# Altium footprint library ICs.PcbLib: 132 footprints (part 8 of 9)
Each footprint in its own frame and in the unit in brackets; x right, y up, seen from the top. Pads: shape width x height; smd on the part's side, far side on the other; paste and mask are expansions set on the pad; w line width, h text height; cw(c..) or ccw(c..) is an arc to the next point about the centre after c.
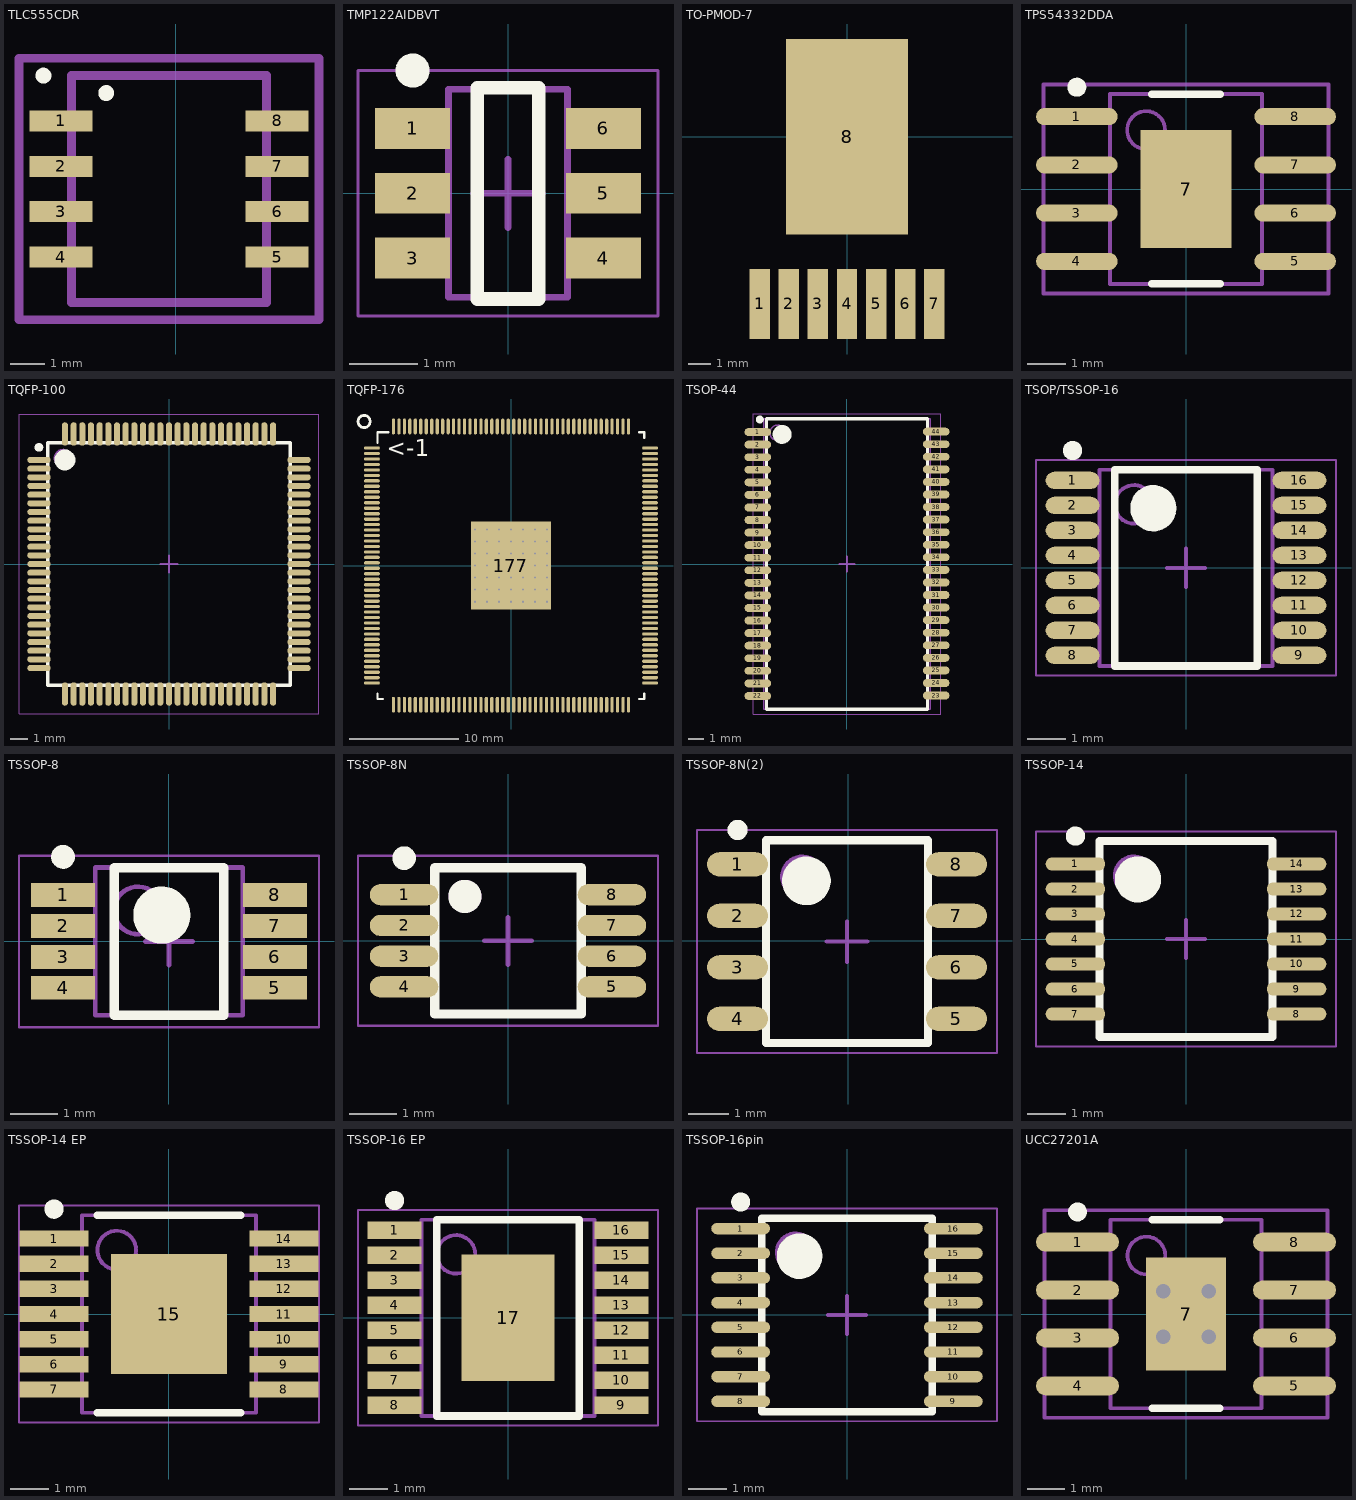
[diagram p7: the footprints below, top view; thin cyan lines are the x and y axes]

## TLC555CDR [mm]
height 2
pads (8):
  rect 1.8x0.6 smd: 1(-3.3,-3.8) 2(-3.3,-5.1) 3(-3.3,-6.4) 4(-3.3,-7.7) 5(2.9,-7.7) 6(2.9,-6.4) 7(2.9,-5.1) 8(2.9,-3.8)
Top Overlay:
  circle w0.254: c-2,-3 r0.1
  circle w0.254: c-3.8,-2.5 r0.1
Mechanical 13:
  lines w0.254: -3,-9 2.6,-9 2.6,-2.5 -3,-2.5 -3,-9
Mechanical 15:
  lines w0.254: -4.5,-9.5 4.1,-9.5 4.1,-2 -4.5,-2 -4.5,-9.5
3D body: height 2, standoff 0, extent -3.1,-9.1 2.7,-2.4

## TMP122AIDBVT [mm] "SOT23"
height 1.45
pads (6):
  rect 1.1x0.6 smd: 1(-1.4,0.95) 2(-1.4,0) 3(-1.4,-0.95) 4(1.4,-0.95) 5(1.4,0) 6(1.4,0.95)
Top Overlay:
  circle w0.25: c-1.4,1.8 r0.125
  lines w0.2: -0.45,-1.55 -0.45,1.55 0.45,1.55 0.45,-1.55 -0.45,-1.55
Mechanical 13:
  lines w0.1: -0.875,-1.525 0.875,-1.525 0.875,1.525 -0.875,1.525 -0.875,-1.525
Mechanical 15:
  lines w0.05: -2.2,-1.8 2.2,-1.8 2.2,1.8 -2.2,1.8 -2.2,-1.8
  lines w0.1: -0.5,0 0.5,0 ; 0,-0.5 0,0.5
3D body: height 1.45, standoff 0.15, extent -0.875,-1.525 0.875,1.525

## TO-PMOD-7 [mm] "For LMZ14201h"
height 4.57
pads (8):
  rect 0.89x3.06 smd: 1(-3.81,-7.305) 2(-2.54,-7.305) 3(-1.27,-7.305) 4(0,-7.305) 5(1.27,-7.305) 6(2.54,-7.305) 7(3.81,-7.305)
  rect 5.35x8.54 smd: 8(0,0)
3D body: height 5, standoff 0.6, extent -4.826,-5.74 4.902,4.407

## TPS54332DDA [mm] "IC REG BUCK ADJ 3.5A 8SOPWRPAD"
height 1.7
pads (9):
  oval 2.15x0.45 smd: 1(-2.875,1.905) 2(-2.875,0.635) 3(-2.875,-0.635) 4(-2.875,-1.905) 5(2.875,-1.905) 6(2.875,-0.635) 7(2.875,0.635) 8(2.875,1.905)
  rect 2.4x3.1 smd: 7(0,0)
Top Overlay:
  circle w0.25: c-2.875,2.68 r0.125
  lines w0.2: -0.9,-2.5 0.9,-2.5 ; -0.9,2.5 0.9,2.5
Mechanical 13:
  circle w0.1: c-1.05,1.55 r0.5
  lines w0.1: -2,-2.5 2,-2.5 2,2.5 -2,2.5 -2,-2.5
Mechanical 15:
  lines w0.1: -0.5,0 0.5,0 ; 0,-0.5 0,0.5 ; -3.75,-2.75 3.75,-2.75 3.75,2.75 -3.75,2.75 -3.75,-2.75
3D body: height 1.7, standoff 0.1, extent -2,-2.5 2,2.5

## TQFP-100 [mm] "Used For Altera Max II CPLD"
height 1.2
pads (100):
  oval 1.35x0.35 smd: 1(-7.5,6) 2(-7.5,5.5) 3(-7.5,5) 4(-7.5,4.5) 5(-7.5,4) 6(-7.5,3.5) 7(-7.5,3) 8(-7.5,2.5) 9(-7.5,2) 10(-7.5,1.5) 11(-7.5,1) 12(-7.5,0.5) 13(-7.5,0) 14(-7.5,-0.5) 15(-7.5,-1) 16(-7.5,-1.5) 17(-7.5,-2) 18(-7.5,-2.5) 19(-7.5,-3) 20(-7.5,-3.5) 21(-7.5,-4) 22(-7.5,-4.5) 23(-7.5,-5) 24(-7.5,-5.5) 25(-7.5,-6) 51(7.5,-6) 52(7.5,-5.5) 53(7.5,-5) 54(7.5,-4.5) 55(7.5,-4) 56(7.5,-3.5) 57(7.5,-3) 58(7.5,-2.5) 59(7.5,-2) 60(7.5,-1.5) 61(7.5,-1) 62(7.5,-0.5) 63(7.5,0) 64(7.5,0.5) 65(7.5,1) 66(7.5,1.5) 67(7.5,2) 68(7.5,2.5) 69(7.5,3) 70(7.5,3.5) 71(7.5,4) 72(7.5,4.5) 73(7.5,5) 74(7.5,5.5) 75(7.5,6)
  oval 0.35x1.35 smd: 26(-6,-7.5) 27(-5.5,-7.5) 28(-5,-7.5) 29(-4.5,-7.5) 30(-4,-7.5) 31(-3.5,-7.5) 32(-3,-7.5) 33(-2.5,-7.5) 34(-2,-7.5) 35(-1.5,-7.5) 36(-1,-7.5) 37(-0.5,-7.5) 38(0,-7.5) 39(0.5,-7.5) 40(1,-7.5) 41(1.5,-7.5) 42(2,-7.5) 43(2.5,-7.5) 44(3,-7.5) 45(3.5,-7.5) 46(4,-7.5) 47(4.5,-7.5) 48(5,-7.5) 49(5.5,-7.5) 50(6,-7.5) 76(6,7.5) 77(5.5,7.5) 78(5,7.5) 79(4.5,7.5) 80(4,7.5) 81(3.5,7.5) 82(3,7.5) 83(2.5,7.5) 84(2,7.5) 85(1.5,7.5) 86(1,7.5) 87(0.5,7.5) 88(0,7.5) 89(-0.5,7.5) 90(-1,7.5) 91(-1.5,7.5) 92(-2,7.5) 93(-2.5,7.5) 94(-3,7.5) 95(-3.5,7.5) 96(-4,7.5) 97(-4.5,7.5) 98(-5,7.5) 99(-5.5,7.5) 100(-6,7.5)
Top Overlay:
  circle w0.6: c-6,6 r0.3
  circle w0.25: c-7.5,6.725 r0.125
  lines w0.2: -7,-7 7,-7 7,7 -7,7 -7,-7
Mechanical 13:
  circle w0.1: c-6.1,6.1 r0.5
  lines w0.1: -7,-7 7,-7 7,7 -7,7 -7,-7
Mechanical 15:
  lines w0.05: -8.65,-8.65 8.65,-8.65 8.65,8.65 -8.65,8.65 -8.65,-8.65
  lines w0.1: -0.5,0 0.5,0 ; 0,-0.5 0,0.5
3D body: height 1.2, standoff 0.15, extent -7,-7 7,7

## TQFP-176 [mm] "For TMS320F28377sPTP"
height 0.127
pads (226):
  oval 1.45x0.3 smd paste+0 mask+0.051: 1(-12.75,10.775) 2(-12.75,10.275) 3(-12.75,9.775) 4(-12.75,9.275) 5(-12.75,8.775) 6(-12.75,8.275) 7(-12.75,7.775) 8(-12.75,7.275) 9(-12.75,6.775) 10(-12.75,6.275) 11(-12.75,5.775) 12(-12.75,5.275) 13(-12.75,4.775) 14(-12.75,4.275) 15(-12.75,3.775) 16(-12.75,3.275) 17(-12.75,2.775) 18(-12.75,2.275) 19(-12.75,1.775) 20(-12.75,1.275) 21(-12.75,0.775) 22(-12.75,0.275) 23(-12.75,-0.225) 24(-12.75,-0.725) 25(-12.75,-1.225) 26(-12.75,-1.725) 27(-12.75,-2.225) 28(-12.75,-2.725) 29(-12.75,-3.225) 30(-12.75,-3.725) 31(-12.75,-4.225) 32(-12.75,-4.725) 33(-12.75,-5.225) 34(-12.75,-5.725) 35(-12.75,-6.225) 36(-12.75,-6.725) 37(-12.75,-7.225) 38(-12.75,-7.725) 39(-12.75,-8.225) 40(-12.75,-8.725) 41(-12.75,-9.225) 42(-12.75,-9.725) 43(-12.75,-10.225) 44(-12.75,-10.725) 89(12.7,-10.725) 90(12.7,-10.225) 91(12.7,-9.725) 92(12.7,-9.225) 93(12.7,-8.725) 94(12.7,-8.225) 95(12.7,-7.725) 96(12.7,-7.225) 97(12.7,-6.725) 98(12.7,-6.225) 99(12.7,-5.725) 100(12.7,-5.225) 101(12.7,-4.725) 102(12.7,-4.225) 103(12.7,-3.725) 104(12.7,-3.225) 105(12.7,-2.725) 106(12.7,-2.225) 107(12.7,-1.725) 108(12.7,-1.225) 109(12.7,-0.725) 110(12.7,-0.225) 111(12.7,0.275) 112(12.7,0.775) 113(12.7,1.275) 114(12.7,1.775) 115(12.7,2.275) 116(12.7,2.775) 117(12.7,3.275) 118(12.7,3.775) 119(12.7,4.275) 120(12.7,4.775) 121(12.7,5.275) 122(12.7,5.775) 123(12.7,6.275) 124(12.7,6.775) 125(12.7,7.275) 126(12.7,7.775) 127(12.7,8.275) 128(12.7,8.775) 129(12.7,9.275) 130(12.7,9.775) 131(12.7,10.275) 132(12.7,10.775)
  oval 0.3x1.45 smd paste+0 mask+0.051: 45(-10.775,-12.7) 46(-10.275,-12.7) 47(-9.775,-12.7) 48(-9.275,-12.7) 49(-8.775,-12.7) 50(-8.275,-12.7) 51(-7.775,-12.7) 52(-7.275,-12.7) 53(-6.775,-12.7) 54(-6.275,-12.7) 55(-5.775,-12.7) 56(-5.275,-12.7) 57(-4.775,-12.7) 58(-4.275,-12.7) 59(-3.775,-12.7) 60(-3.275,-12.7) 61(-2.775,-12.7) 62(-2.275,-12.7) 63(-1.775,-12.7) 64(-1.275,-12.7) 65(-0.775,-12.7) 66(-0.275,-12.7) 67(0.225,-12.7) 68(0.725,-12.7) 69(1.225,-12.7) 70(1.725,-12.7) 71(2.225,-12.7) 72(2.725,-12.7) 73(3.225,-12.7) 74(3.725,-12.7) 75(4.225,-12.7) 76(4.725,-12.7) 77(5.225,-12.7) 78(5.725,-12.7) 79(6.225,-12.7) 80(6.725,-12.7) 81(7.225,-12.7) 82(7.725,-12.7) 83(8.225,-12.7) 84(8.725,-12.7) 85(9.225,-12.7) 86(9.725,-12.7) 87(10.225,-12.7) 88(10.725,-12.7) 133(10.725,12.75) 134(10.225,12.75) 135(9.725,12.75) 136(9.225,12.75) 137(8.725,12.75) 138(8.225,12.75) 139(7.725,12.75) 140(7.225,12.75) 141(6.725,12.75) 142(6.225,12.75) 143(5.725,12.75) 144(5.225,12.75) 145(4.725,12.75) 146(4.225,12.75) 147(3.725,12.75) 148(3.225,12.75) 149(2.725,12.75) 150(2.225,12.75) 151(1.725,12.75) 152(1.225,12.75) 153(0.725,12.75) 154(0.225,12.75) 155(-0.275,12.75) 156(-0.775,12.75) 157(-1.275,12.75) 158(-1.775,12.75) 159(-2.275,12.75) 160(-2.775,12.75) 161(-3.275,12.75) 162(-3.775,12.75) 163(-4.275,12.75) 164(-4.775,12.75) 165(-5.275,12.75) 166(-5.775,12.75) 167(-6.275,12.75) 168(-6.775,12.75) 169(-7.275,12.75) 170(-7.775,12.75) 171(-8.275,12.75) 172(-8.775,12.75) 173(-9.275,12.75) 174(-9.775,12.75) 175(-10.275,12.75) 176(-10.775,12.75)
  rect 7.33x8.07 smd paste+0 mask+0.051: 177(-0.025,0.025)
  round 0.5 / inner round 1.524 / far side round 0.5 hole 0.203 mask+0.051: V(-3.325,-3.275) V(-3.325,-2.175) V(-3.325,-1.075) V(-3.325,0.025) V(-3.325,1.125) V(-3.325,2.225) V(-3.325,3.325) V(-2.225,-3.275) V(-2.225,-2.175) V(-2.225,-1.075) V(-2.225,0.025) V(-2.225,1.125) V(-2.225,2.225) V(-2.225,3.325) V(-1.125,-3.275) V(-1.125,-2.175) V(-1.125,-1.075) V(-1.125,0.025) V(-1.125,1.125) V(-1.125,2.225) V(-1.125,3.325) V(-0.025,-3.275) V(-0.025,-2.175) V(-0.025,-1.075) V(-0.025,0.025) V(-0.025,1.125) V(-0.025,2.225) V(-0.025,3.325) V(1.075,-3.275) V(1.075,-2.175) V(1.075,-1.075) V(1.075,0.025) V(1.075,1.125) V(1.075,2.225) V(1.075,3.325) V(2.175,-3.275) V(2.175,-2.175) V(2.175,-1.075) V(2.175,0.025) V(2.175,1.125) V(2.175,2.225) V(2.175,3.325) V(3.275,-3.275) V(3.275,-2.175) V(3.275,-1.075) V(3.275,0.025) V(3.275,1.125) V(3.275,2.225) V(3.275,3.325)
Top Overlay:
  circle w0.254: c-13.462,13.208 r0.558
  lines w0.2: -12.225,-11.675 -12.225,-12.175 -11.725,-12.175 ; -12.225,11.225 -12.225,12.225 -11.225,12.225 ; 11.675,-12.175 12.175,-12.175 12.175,-11.675 ; 11.675,12.225 12.175,12.225 12.175,11.725
  text "<-1" at -11.405,10.008 h1.52
3D body: height 1.5, standoff 0, extent -12.37,-12.268 12.192,12.344

## TSOP-44 [mm] "For Cypress 4MB SRAM"
height 1.2
pads (44):
  oval 1.7x0.5 smd: 1(-5.677,8.4) 2(-5.677,7.6) 3(-5.677,6.8) 4(-5.677,6) 5(-5.677,5.2) 6(-5.677,4.4) 7(-5.677,3.6) 8(-5.677,2.8) 9(-5.677,2) 10(-5.677,1.2) 11(-5.677,0.4) 12(-5.677,-0.4) 13(-5.677,-1.2) 14(-5.677,-2) 15(-5.677,-2.8) 16(-5.677,-3.6) 17(-5.677,-4.4) 18(-5.677,-5.2) 19(-5.677,-6) 20(-5.677,-6.8) 21(-5.677,-7.6) 22(-5.677,-8.4) 23(5.677,-8.375) 24(5.677,-7.575) 25(5.677,-6.775) 26(5.677,-5.975) 27(5.677,-5.175) 28(5.677,-4.375) 29(5.677,-3.575) 30(5.677,-2.775) 31(5.677,-1.975) 32(5.677,-1.175) 33(5.677,-0.375) 34(5.677,0.425) 35(5.677,1.225) 36(5.677,2.025) 37(5.677,2.825) 38(5.677,3.625) 39(5.677,4.425) 40(5.677,5.225) 41(5.677,6.025) 42(5.677,6.825) 43(5.677,7.625) 44(5.677,8.425)
Top Overlay:
  circle w0.25: c-5.55,9.2 r0.125
  circle w0.6: c-4.131,8.25 r0.3
  lines w0.2: -5.131,-9.254 -5.131,9.246 ; -5.131,-9.25 5.131,-9.25 ; -5.131,9.25 5.131,9.25 ; 5.131,-9.254 5.131,9.246
Mechanical 13:
  circle w0.1: c-4.4,8.35 r0.5
  lines w0.1: -5.309,-9.254 -5.309,9.246 ; -5.3,-9.25 5.3,-9.25 ; -5.3,9.25 5.3,9.25 ; 5.309,-9.254 5.309,9.246
Mechanical 15:
  lines w0.05: -5.975,-9.55 -5.975,9.55 5.975,9.55 5.975,-9.55 -5.975,-9.55
  lines w0.1: -0.5,0 0.5,0 ; 0,-0.5 0,0.5
3D body: height 1.2, standoff 0.06, extent -5.3,-9.25 5.3,9.25

## TSOP/TSSOP-16 [mm] "TSOP/TSSOP, 16-Leads, Body 5.00x4.40mm, Pitch 0.65mm, IPC Medium Density"
height 1.1
pads (16):
  oval 1.4x0.45 smd: 1(-2.95,2.275) 2(-2.95,1.625) 3(-2.95,0.975) 4(-2.95,0.325) 5(-2.95,-0.325) 6(-2.95,-0.975) 7(-2.95,-1.625) 8(-2.95,-2.275) 9(2.95,-2.275) 10(2.95,-1.625) 11(2.95,-0.975) 12(2.95,-0.325) 13(2.95,0.325) 14(2.95,0.975) 15(2.95,1.625) 16(2.95,2.275)
Top Overlay:
  circle w0.6: c-0.85,1.55 r0.3
  circle w0.25: c-2.95,3.05 r0.125
  lines w0.2: -1.85,-2.55 1.85,-2.55 1.85,2.55 -1.85,2.55 -1.85,-2.55
Mechanical 13:
  circle w0.1: c-1.35,1.65 r0.5
  lines w0.1: -2.25,-2.55 2.25,-2.55 2.25,2.55 -2.25,2.55 -2.25,-2.55
Mechanical 15:
  lines w0.05: -3.9,-2.8 3.9,-2.8 3.9,2.8 -3.9,2.8 -3.9,-2.8
  lines w0.1: -0.5,0 0.5,0 ; 0,-0.5 0,0.5
3D body: height 1.1, standoff 0.15, extent -2.25,-2.55 2.25,2.55

## TSSOP-8 [mm] "TSOP, 8-Leads, Body 3.00x3.00mm, Pitch 0.65mm, IPC Medium Density"
height 1
pads (8):
  rect 1.35x0.5 smd: 1(-2.225,0.975) 2(-2.225,0.325) 3(-2.225,-0.325) 4(-2.225,-0.975) 5(2.225,-0.975) 6(2.225,-0.325) 7(2.225,0.325) 8(2.225,0.975)
Top Overlay:
  circle w0.6: c-0.15,0.55 r0.3
  circle w0.25: c-2.225,1.775 r0.125
  lines w0.2: -1.15,-1.55 1.15,-1.55 1.15,1.55 -1.15,1.55 -1.15,-1.55
Mechanical 13:
  circle w0.1: c-0.65,0.65 r0.5
  lines w0.1: -1.55,-1.55 1.55,-1.55 1.55,1.55 -1.55,1.55 -1.55,-1.55
Mechanical 15:
  lines w0.05: -3.15,-1.8 3.15,-1.8 3.15,1.8 -3.15,1.8 -3.15,-1.8
  lines w0.1: -0.5,0 0.5,0 ; 0,-0.5 0,0.5
3D body: height 1, standoff 0.05, extent -1.55,-1.55 1.55,1.55

## TSSOP-8N [mm]
height 1.1
pads (8):
  oval 1.45x0.45 smd: 1(-2.2,0.975) 2(-2.2,0.325) 3(-2.2,-0.325) 4(-2.2,-0.975) 5(2.2,-0.975) 6(2.2,-0.325) 7(2.2,0.325) 8(2.2,0.975)
Top Overlay:
  circle w0.6: c-0.914,0.94 r0.05
  circle w0.25: c-2.2,1.75 r0.125
  lines w0.2: -1.55,-1.55 1.55,-1.55 1.55,1.55 -1.55,1.55 -1.55,-1.55
Mechanical 13:
  circle w0.1: c-0.91,0.94 r0.3
  lines w0.1: -1.55,-1.55 1.55,-1.55 1.55,1.55 -1.55,1.55 -1.55,-1.55
Mechanical 15:
  lines w0.05: -3.175,-1.8 3.175,-1.8 3.175,1.8 -3.175,1.8 -3.175,-1.8
  lines w0.1: -0.5,0 0.5,0 ; 0,-0.5 0,0.5
3D body: height 1.1, standoff 0.1, extent -1.55,-1.55 1.55,1.55

## TSSOP-8N(2) [mm] "For LMV722"
height 1.1
pads (8):
  oval 1.5x0.6 smd: 1(-2.725,1.88) 2(-2.725,0.61) 3(-2.725,-0.66) 4(-2.725,-1.93) 5(2.675,-1.93) 6(2.675,-0.66) 7(2.675,0.61) 8(2.675,1.88)
Top Overlay:
  circle w0.6: c-1.025,1.475 r0.3
  circle w0.25: c-2.725,2.73 r0.125
  lines w0.2: -2.025,-2.525 1.975,-2.525 1.975,2.475 -2.025,2.475 -2.025,-2.525
Mechanical 13:
  circle w0.1: c-1.125,1.575 r0.5
  lines w0.1: -2.025,-2.525 1.975,-2.525 1.975,2.475 -2.025,2.475 -2.025,-2.525
Mechanical 15:
  lines w0.05: -3.725,-2.775 3.675,-2.775 3.675,2.725 -3.725,2.725 -3.725,-2.775
  lines w0.1: -0.525,-0.025 0.475,-0.025 ; -0.025,-0.525 -0.025,0.475
3D body: height 1.75, standoff 0.1, extent -2.025,-2.525 1.975,2.475

## TSSOP-14 [mm] "For AD8402ARUZ50-ND (Digital Pot)"
height 1.05
pads (14):
  oval 1.55x0.35 smd: 1(-2.875,1.95) 2(-2.875,1.3) 3(-2.875,0.65) 4(-2.875,0) 5(-2.875,-0.65) 6(-2.875,-1.3) 7(-2.875,-1.95) 8(2.875,-1.95) 9(2.875,-1.3) 10(2.875,-0.65) 11(2.875,0) 12(2.875,0.65) 13(2.875,1.3) 14(2.875,1.95)
Top Overlay:
  circle w0.25: c-2.875,2.675 r0.125
  circle w0.6: c-1.25,1.55 r0.3
  lines w0.2: -2.25,-2.55 -2.25,2.55 2.25,2.55 2.25,-2.55 -2.25,-2.55
Mechanical 13:
  circle w0.1: c-1.35,1.65 r0.5
  lines w0.1: -2.25,-2.55 -2.25,2.55 2.25,2.55 2.25,-2.55 -2.25,-2.55
Mechanical 15:
  lines w0.05: -3.9,-2.8 -3.9,2.8 3.9,2.8 3.9,-2.8 -3.9,-2.8
  lines w0.1: -0.5,0 0.5,0 ; 0,-0.5 0,0.5
3D body: height 1.05, standoff 0.05, extent -2.25,-2.55 2.25,2.55

## TSSOP-14 EP [mm] "TSOP, 14-Leads, Body 5.00x4.40mm, Pitch 0.65mm, Thermal Pad 3.10x3.00mm, IPC Medium Density"
height 1.1
pads (15):
  rect 1.78x0.42 smd: 1(-2.97,1.95) 2(-2.97,1.3) 3(-2.97,0.65) 4(-2.97,0) 5(-2.97,-0.65) 6(-2.97,-1.3) 7(-2.97,-1.95) 8(2.97,-1.95) 9(2.97,-1.3) 10(2.97,-0.65) 11(2.97,0) 12(2.97,0.65) 13(2.97,1.3) 14(2.97,1.95)
  rect 3x3.1 smd: 15(0,0)
Top Overlay:
  circle w0.25: c-2.97,2.71 r0.125
  lines w0.2: -1.85,-2.55 1.85,-2.55 ; -1.85,2.55 1.85,2.55
Mechanical 13:
  circle w0.1: c-1.35,1.65 r0.5
  lines w0.1: -2.25,-2.55 2.25,-2.55 2.25,2.55 -2.25,2.55 -2.25,-2.55
Mechanical 15:
  lines w0.05: -3.875,-2.8 3.875,-2.8 3.875,2.8 -3.875,2.8 -3.875,-2.8
  lines w0.1: -0.5,0 0.5,0 ; 0,-0.5 0,0.5
3D body: height 1.1, standoff 0.08, extent -2.25,-2.55 2.25,2.55

## TSSOP-16 EP [mm] "TSOP, 16-Leads, Body 5.00x4.40mm, Pitch 0.65mm, Thermal Pad 3.29x2.41mm, IPC Medium Density"
height 1.2
pads (17):
  rect 1.4x0.45 smd: 1(-2.95,2.275) 2(-2.95,1.625) 3(-2.95,0.975) 4(-2.95,0.325) 5(-2.95,-0.325) 6(-2.95,-0.975) 7(-2.95,-1.625) 8(-2.95,-2.275) 9(2.95,-2.275) 10(2.95,-1.625) 11(2.95,-0.975) 12(2.95,-0.325) 13(2.95,0.325) 14(2.95,0.975) 15(2.95,1.625) 16(2.95,2.275)
  rect 2.41x3.29 smd: 17(0,0)
Top Overlay:
  circle w0.25: c-2.95,3.05 r0.125
  lines w0.2: -1.85,-2.55 -1.85,2.55 1.85,2.55 1.85,-2.55 -1.85,-2.55
Mechanical 13:
  circle w0.1: c-1.35,1.65 r0.5
  lines w0.1: -2.25,-2.55 -2.25,2.55 2.25,2.55 2.25,-2.55 -2.25,-2.55
Mechanical 15:
  lines w0.05: -3.9,-2.8 -3.9,2.8 3.9,2.8 3.9,-2.8 -3.9,-2.8
  lines w0.1: -0.5,0 0.5,0 ; 0,-0.5 0,0.5
3D body: height 1.2, standoff 0.05, extent -2.25,-2.55 2.25,2.55

## TSSOP-16pin [mm] "For 296-19764-ND"
height 1.2
pads (16):
  oval 1.55x0.3 smd: 1(-2.8,2.275) 2(-2.8,1.625) 3(-2.8,0.975) 4(-2.8,0.325) 5(-2.8,-0.325) 6(-2.8,-0.975) 7(-2.8,-1.625) 8(-2.8,-2.275) 9(2.8,-2.275) 10(2.8,-1.625) 11(2.8,-0.975) 12(2.8,-0.325) 13(2.8,0.325) 14(2.8,0.975) 15(2.8,1.625) 16(2.8,2.275)
Top Overlay:
  circle w0.6: c-1.25,1.55 r0.3
  circle w0.25: c-2.8,2.975 r0.125
  lines w0.2: -2.25,-2.55 2.25,-2.55 2.25,2.55 -2.25,2.55 -2.25,-2.55
Mechanical 13:
  circle w0.1: c-1.35,1.65 r0.5
  lines w0.1: -2.25,-2.55 2.25,-2.55 2.25,2.55 -2.25,2.55 -2.25,-2.55
Mechanical 15:
  lines w0.05: -3.95,-2.8 3.95,-2.8 3.95,2.8 -3.95,2.8 -3.95,-2.8
  lines w0.1: -0.5,0 0.5,0 ; 0,-0.5 0,0.5
3D body: height 1.2, standoff 0.1, extent -2.25,-2.55 2.25,2.55

## UCC27201A [mm] "120-V Boot, 3-A Peak, High Frequency, High-side/Low-side Driver"
height 1.7
pads (9):
  oval 2.2x0.5 smd mask+0.07: 1(-2.875,1.905) 2(-2.875,0.635) 3(-2.875,-0.635) 4(-2.875,-1.905) 5(2.875,-1.905) 6(2.875,-0.635) 7(2.875,0.635) 8(2.875,1.905)
  rect 2.13x3 smd: 7(0,0)
via -0.6,0.6 diameter 0.737 hole 0.381
via 0.6,0.6 diameter 0.737 hole 0.381
via -0.6,-0.6 diameter 0.737 hole 0.381
via 0.6,-0.6 diameter 0.737 hole 0.381
Top Overlay:
  circle w0.25: c-2.875,2.705 r0.125
  lines w0.2: -0.9,-2.5 0.9,-2.5 ; -0.9,2.5 0.9,2.5
Mechanical 13:
  circle w0.1: c-1.05,1.55 r0.5
  lines w0.1: -2,-2.5 -2,2.5 2,2.5 2,-2.5 -2,-2.5
Mechanical 15:
  lines w0.1: -0.5,0 0.5,0 ; 0,-0.5 0,0.5 ; -3.75,-2.75 -3.75,2.75 3.75,2.75 3.75,-2.75 -3.75,-2.75
3D body: height 1.7, standoff 0.15, extent -2,-2.5 2,2.5